# Altium footprint library Murata.PcbLib: 1 footprints
Each footprint in its own frame and in the unit in brackets; x right, y up, seen from the top. Pads: shape width x height; smd on the part's side, far side on the other; paste and mask are expansions set on the pad; w line width, h text height; cw(c..) or ccw(c..) is an arc to the next point about the centre after c.
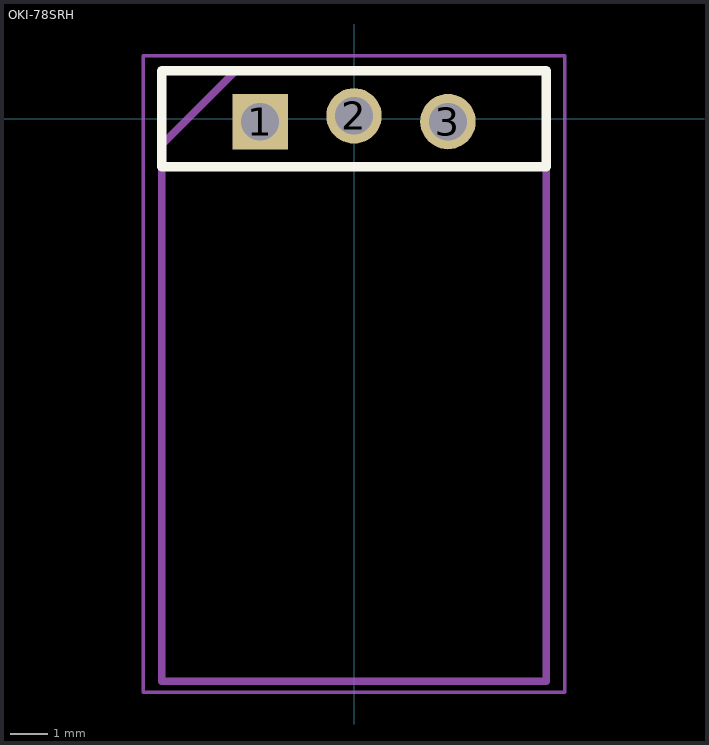
[diagram p0: the footprint, top view; thin cyan lines are the x and y axes]

## OKI-78SRH [mm]
height 7.6
pads (3):
  rect 1.5x1.5 hole 1.016: 1(-2.54,-0.077)
  round 1.5 hole 1.016: 2(0,0.077) 3(2.54,-0.077)
Top Overlay:
  lines w0.254: -5.2,-1.3 -5.2,1.3 5.2,1.3 5.2,-1.3 -5.2,-1.3
Assembly:
  lines w0.2: -5.2,-15.2 5.2,-15.2 5.2,1.3 -3.2,1.3 -5.2,-0.7 -5.2,-15.2
Courtyard:
  lines w0.1: -5.7,-15.5 5.7,-15.5 5.7,1.7 -5.7,1.7 -5.7,-15.5
3D body: height 10.3, standoff 2.7, extent -5.2,-15.2 5.2,1.3